# EAGLE library part BMP581 (library Bits_library_eagle)
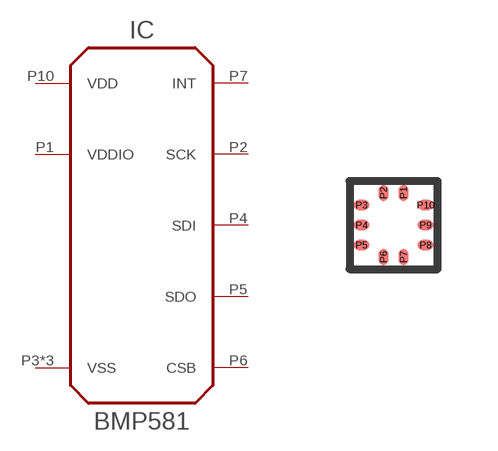
[diagram p36: symbol with the pads of LGA-10; footprint LGA-10]

Designator prefix IC

## BMP581LGA  [LGA-10]
P1  VDDIO  pwr
P2  SCK
P3  VSS  pwr
P4  SDI
P5  SDO
P6  CSB
P7  INT
P8  VSS  pwr
P9  VSS  pwr
P10  VDD  pwr

## Footprint LGA-10 (pad centres in mm)
smd 0.25 x 0.4: P1 0.25,0.8; P2 -0.25,0.8; P6 -0.25,-0.8; P7 0.25,-0.8
smd 0.4 x 0.25: P3 -0.8,0.5; P4 -0.8,0; P5 -0.8,-0.5; P8 0.8,-0.5; P9 0.8,0; P10 0.8,0.5